# EAGLE library part BLE-HM-10 (library pie)
HM-10 module CC2540-based BTLE module
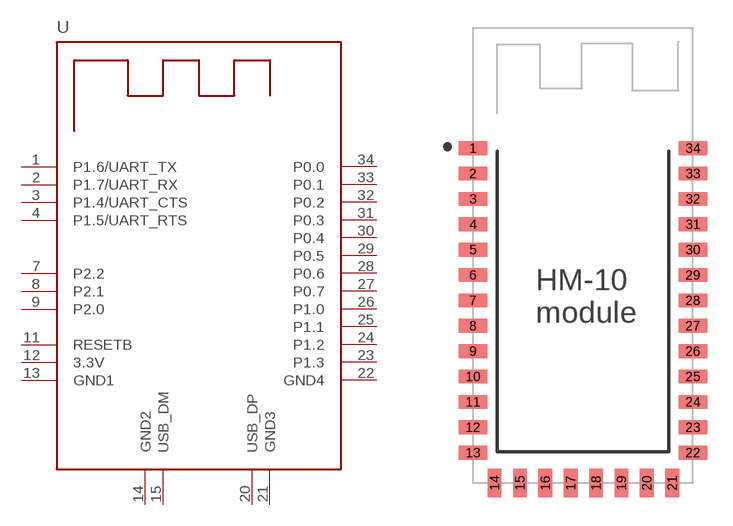
[diagram p25: symbol with the pads of BLE-HM-10; footprint BLE-HM-10]

Designator prefix U

## BLE-HM-10 (PIE-INT-REF-NUM: hm10)  [BLE-HM-10]
1  P1.6/UART_TX
2  P1.7/UART_RX
3  P1.4/UART_CTS
4  P1.5/UART_RTS
7  P2.2
8  P2.1
9  P2.0
11  RESETB
12  3.3V
13  GND1
14  GND2
15  USB_DM
20  USB_DP
21  GND3
22  GND4
23  P1.3
24  P1.2
25  P1.1
26  P1.0
27  P0.7
28  P0.6
29  P0.5
30  P0.4
31  P0.3
32  P0.2
33  P0.1
34  P0.0

## Footprint BLE-HM-10 (pad centres in mm)
HM-10 module CC2540-based BTLE module Datasheet <http://www.ti.com/lit/ds/symlink/cc2540.pdf>
smd 1.676 x 0.813: 1 -6.5,7.79; 2 -6.5,6.29; 3 -6.5,4.79; 4 -6.5,3.29; 5 -6.5,1.79; 6 -6.5,0.29; 7 -6.5,-1.21; 8 -6.5,-2.71; 9 -6.5,-4.21; 10 -6.5,-5.71; 11 -6.5,-7.21; 12 -6.5,-8.71; 13 -6.5,-10.21; 22 6.5,-10.21; 23 6.5,-8.71; 24 6.5,-7.21; 25 6.5,-5.71; 26 6.5,-4.21; 27 6.5,-2.71; 28 6.5,-1.21; 29 6.5,0.29; 30 6.5,1.79; 31 6.5,3.29; 32 6.5,4.79; 33 6.5,6.29; 34 6.5,7.79
smd 0.813 x 1.676: 14 -5.23,-12; 15 -3.73,-12; 16 -2.23,-12; 17 -0.73,-12; 18 0.77,-12; 19 2.27,-12; 20 3.77,-12; 21 5.27,-12